# EAGLE library part PMOD-SOCKET-FOR-HOST-BOARD (library eagle-library-engr-240-f22)
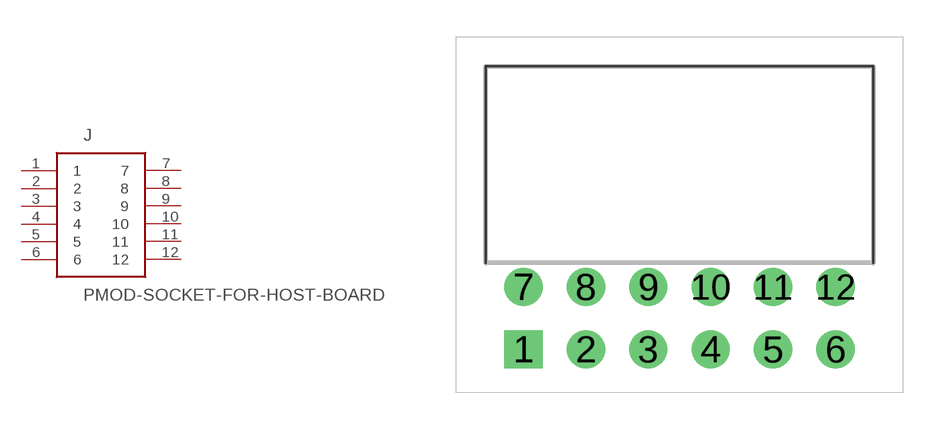
[diagram p4: symbol with the pads of PMOD-SOCKET-FOR-HOST-BOARD; footprint PMOD-SOCKET-FOR-HOST-BOARD]

Designator prefix J

## PMOD-SOCKET-FOR-HOST-BOARD  [PMOD-SOCKET-FOR-HOST-BOARD]
1  1
2  2
3  3
4  4
5  5
6  6
7  7
8  8
9  9
10  10
11  11
12  12

## Footprint PMOD-SOCKET-FOR-HOST-BOARD (pad centres in mm)
drill 1.04 pad 1.55 square: 1 0,0
drill 1.04 pad 1.55: 2 2.54,0; 3 5.08,0; 4 7.62,0; 5 10.16,0; 6 12.7,0; 7 0,2.54; 8 2.54,2.54; 9 5.08,2.54; 10 7.62,2.54; 11 10.16,2.54; 12 12.7,2.54